# Altium footprint library LM_E20_10_6_10PIN.PcbLib: 1 footprints
Each footprint in its own frame and in the unit in brackets; x right, y up, seen from the top. Pads: shape width x height; smd on the part's side, far side on the other; paste and mask are expansions set on the pad; w line width, h text height; cw(c..) or ccw(c..) is an arc to the next point about the centre after c.
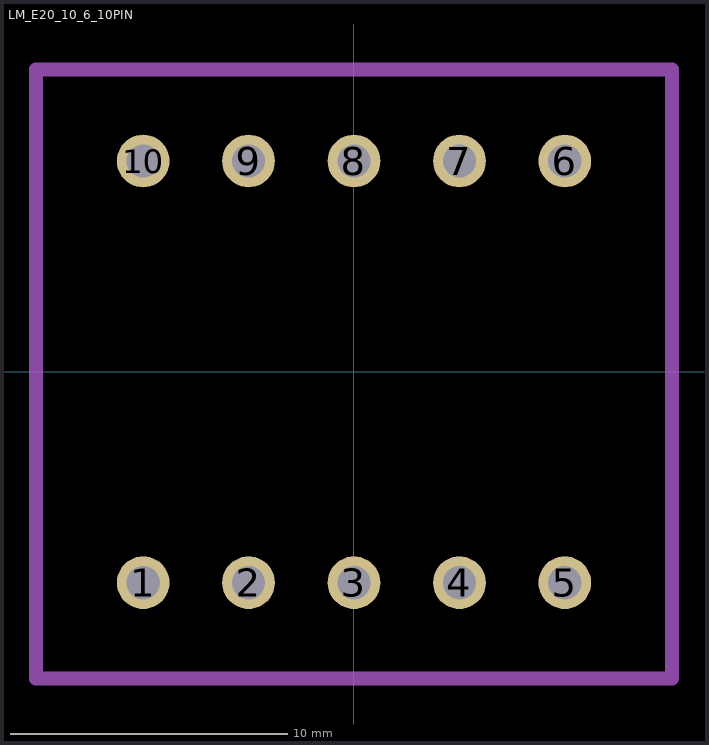
[diagram p0: the footprint, top view; thin cyan lines are the x and y axes]

## LM_E20_10_6_10PIN [mm]
pads (10):
  round 1.905 hole 1.2: 1(-7.62,-7.62) 2(-3.81,-7.62) 3(0,-7.62) 4(3.81,-7.62) 5(7.62,-7.62) 6(7.62,7.62) 7(3.81,7.62) 8(0,7.62) 9(-3.81,7.62) 10(-7.62,7.62)
Mechanical 1:
  lines w0.508: -11.5,-11.078 11.5,-11.078 11.5,10.922 -11.5,10.922 -11.5,-11.078
3D body "e20.STEP": height 17.53, standoff -3.51, extent -11.5,-11.078 11.5,10.922